# EAGLE library part DPDT (library Passives)
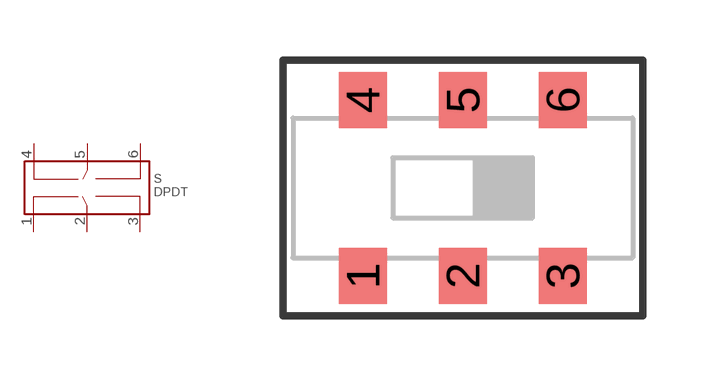
[diagram p15: symbol with the pads of CL-SB-22B-01T; footprint CL-SB-22B-01T]

Designator prefix S

## DPDT  [CL-SB-22B-01T]
1  1
2  2
3  3
4  4
5  5
6  6

## Footprint CL-SB-22B-01T (pad centres in mm)
smd 1.2 x 1.4: 1 -2.5,-2.2; 2 0,-2.2; 3 2.5,-2.2; 4 -2.5,2.2; 5 0,2.2; 6 2.5,2.2